# Altium schematic symbol library BGM111.Schlib: 1 symbol
Pins are listed as number, name and electrical type; pins without a type are passive.

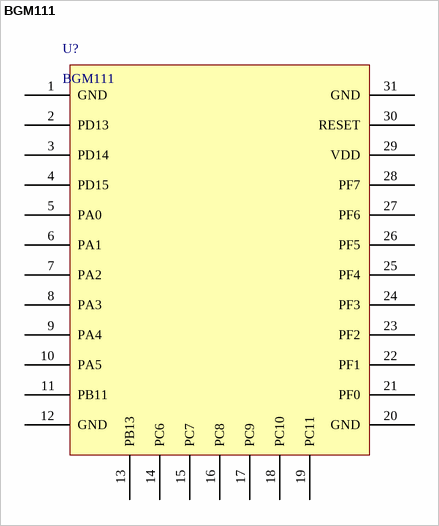
[diagram p0: symbol BGM111]

## BGM111
designator U?
pins: 1 GND, 2 PD13, 3 PD14, 4 PD15, 5 PA0, 6 PA1, 7 PA2, 8 PA3, 9 PA4, 10 PA5, 11 PB11, 12 GND, 13 PB13, 14 PC6, 15 PC7, 16 PC8, 17 PC9, 18 PC10, 19 PC11, 20 GND, 21 PF0, 22 PF1, 23 PF2, 24 PF3, 25 PF4, 26 PF5, 27 PF6, 28 PF7, 29 VDD, 30 RESET, 31 GND